# Altium footprint library INTAN_AFE_V003.PcbLib: 77 footprints (part 4 of 5)
Each footprint in its own frame and in the unit in brackets; x right, y up, seen from the top. Pads: shape width x height; smd on the part's side, far side on the other; paste and mask are expansions set on the pad; w line width, h text height; cw(c..) or ccw(c..) is an arc to the next point about the centre after c.
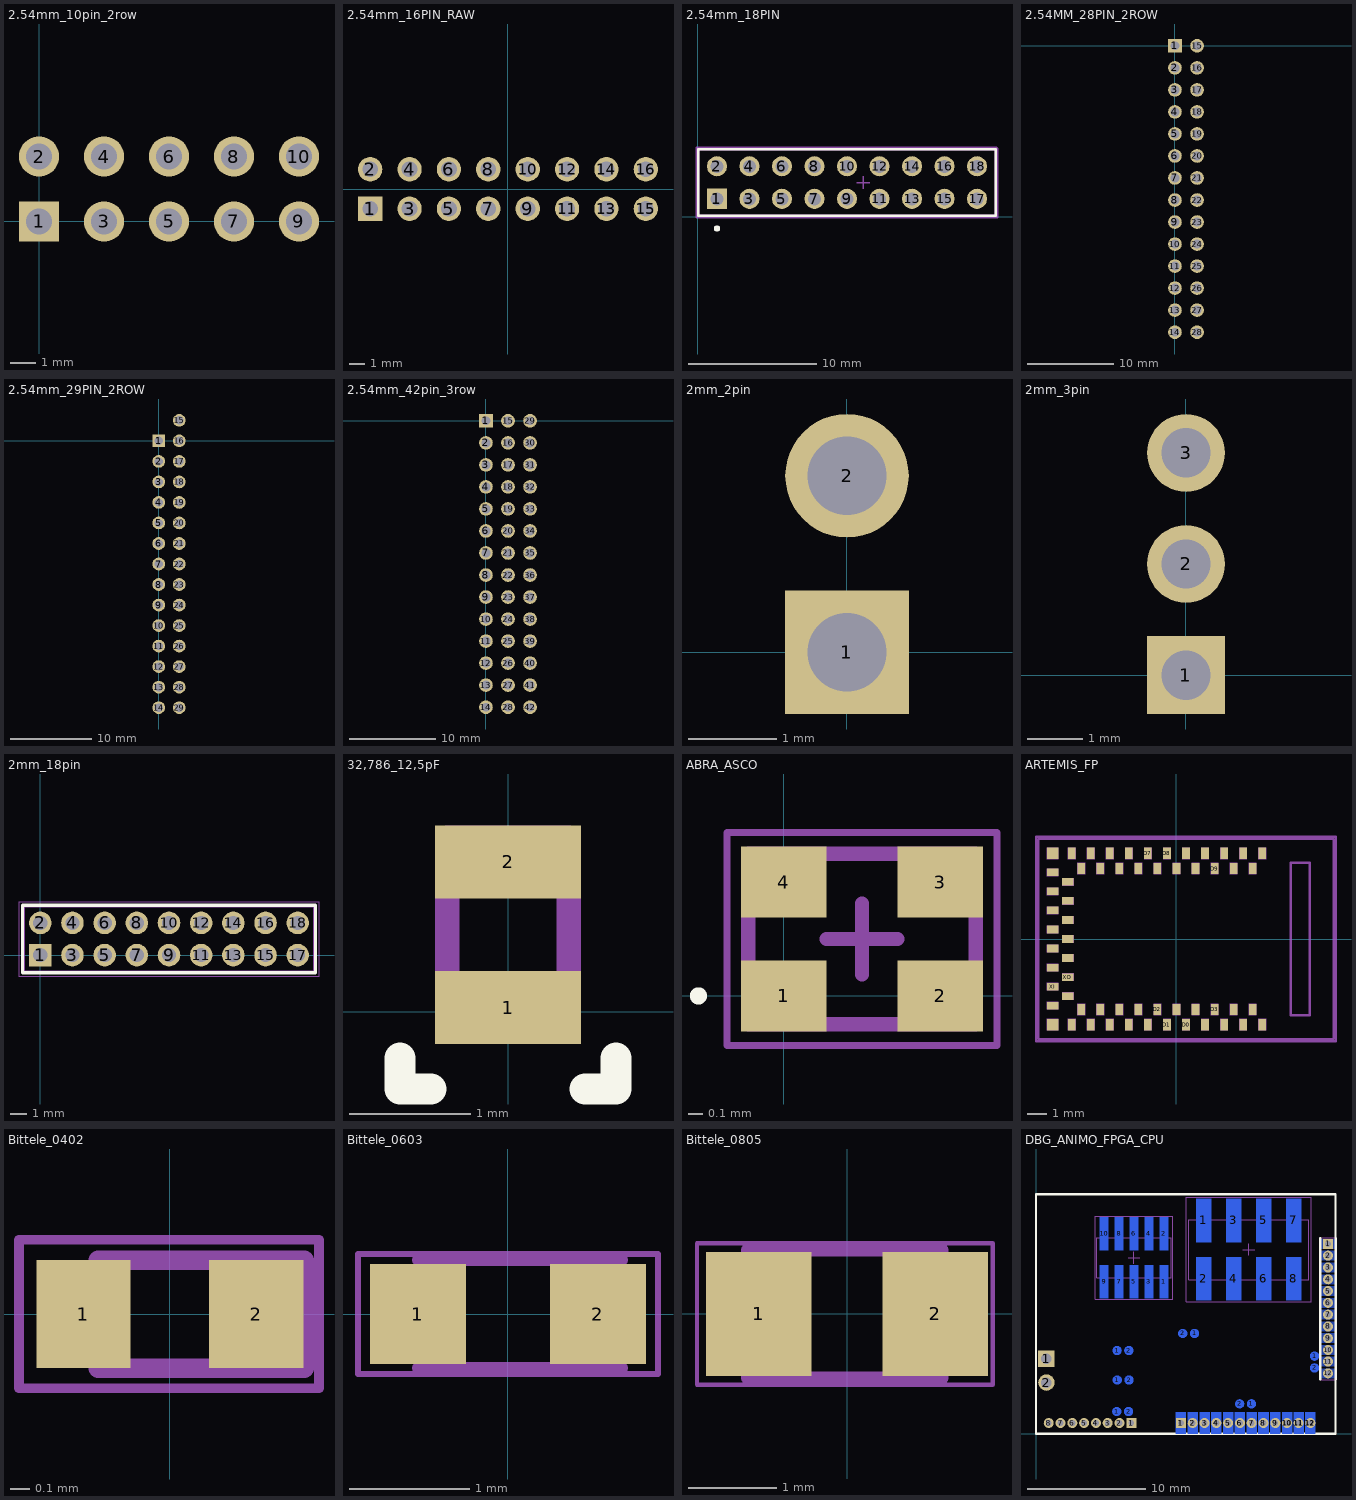
[diagram p3: the footprints below, top view; thin cyan lines are the x and y axes]

## 2.54mm_10pin_2row [mm]
pads (10):
  rect 1.57x1.57 hole 1.02 paste-1000 mask+0: 1(0,0)
  round 1.57 hole 1.02 paste-1000 mask+0: 2(0,2.54) 3(2.54,0) 4(2.54,2.54) 5(5.08,0) 6(5.08,2.54) 7(7.62,0) 8(7.62,2.54) 9(10.16,0) 10(10.16,2.54)

## 2.54mm_16PIN_RAW [mm]
pads (16):
  rect 1.57x1.57 hole 1.02 paste-1000 mask+0: 1(-8.89,-1.27)
  round 1.57 hole 1.02 paste-1000 mask+0: 2(-8.89,1.27) 3(-6.35,-1.27) 4(-6.35,1.27) 5(-3.81,-1.27) 6(-3.81,1.27) 7(-1.27,-1.27) 8(-1.27,1.27) 9(1.27,-1.27) 10(1.27,1.27) 11(3.81,-1.27) 12(3.81,1.27) 13(6.35,-1.27) 14(6.35,1.27) 15(8.89,-1.27) 16(8.89,1.27)

## 2.54mm_18PIN [mm]
pads (18):
  rect 1.57x1.57 hole 1.02 paste-1000 mask+0: 1(1.498,1.42)
  round 1.57 hole 1.02 paste-1000 mask+0: 2(1.498,3.96) 3(4.038,1.42) 4(4.038,3.96) 5(6.578,1.42) 6(6.578,3.96) 7(9.118,1.42) 8(9.118,3.96) 9(11.658,1.42) 10(11.658,3.96) 11(14.198,1.42) 12(14.198,3.96) 13(16.738,1.42) 14(16.738,3.96) 15(19.278,1.42) 16(19.278,3.96) 17(21.818,1.42) 18(21.818,3.96)
Top Overlay:
  circle w0.25: c1.5,-0.9 r0.125
  lines w0.2: 0.038,0.085 23.278,0.085 23.278,5.295 0.038,5.295 0.038,0.085
Top Assembly:
  lines w0.2: -0.062,-0.015 -0.062,5.395 23.305,5.395 23.378,5.322 23.378,-0.015
  text ".Designator" at 13.442,4.212 h1
Top 3D Body:
  lines w0.2: 23.278,5.295 23.278,0.085 0.038,0.085 0.038,5.295 23.3,5.295
Top Courtyard:
  lines w0.2: -0.062,5.395 -0.062,-0.015 23.378,-0.015
Top Component Center:
  lines w0.1: 12.428,2.69 13.428,2.69 ; 12.928,2.19 12.928,3.19

## 2.54MM_28PIN_2ROW [mm]
pads (28):
  rect 1.57x1.57 hole 1.02 paste-1000 mask+0: 1(0,0)
  round 1.57 hole 1.02 paste-1000 mask+0: 2(0,-2.54) 3(0,-5.08) 4(0,-7.62) 5(0,-10.16) 6(0,-12.7) 7(0,-15.24) 8(0,-17.78) 9(0,-20.32) 10(0,-22.86) 11(0,-25.4) 12(0,-27.94) 13(0,-30.48) 14(0,-33.02) 15(2.54,0) 16(2.54,-2.54) 17(2.54,-5.08) 18(2.54,-7.62) 19(2.54,-10.16) 20(2.54,-12.7) 21(2.54,-15.24) 22(2.54,-17.78) 23(2.54,-20.32) 24(2.54,-22.86) 25(2.54,-25.4) 26(2.54,-27.94) 27(2.54,-30.48) 28(2.54,-33.02)

## 2.54mm_29PIN_2ROW [mm]
pads (29):
  rect 1.57x1.57 hole 1.02 paste-1000 mask+0: 1(0,0)
  round 1.57 hole 1.02 paste-1000 mask+0: 2(0,-2.54) 3(0,-5.08) 4(0,-7.62) 5(0,-10.16) 6(0,-12.7) 7(0,-15.24) 8(0,-17.78) 9(0,-20.32) 10(0,-22.86) 11(0,-25.4) 12(0,-27.94) 13(0,-30.48) 14(0,-33.02) 15(2.54,2.54) 16(2.54,0) 17(2.54,-2.54) 18(2.54,-5.08) 19(2.54,-7.62) 20(2.54,-10.16) 21(2.54,-12.7) 22(2.54,-15.24) 23(2.54,-17.78) 24(2.54,-20.32) 25(2.54,-22.86) 26(2.54,-25.4) 27(2.54,-27.94) 28(2.54,-30.48) 29(2.54,-33.02)

## 2.54mm_42pin_3row [mm]
pads (42):
  rect 1.57x1.57 hole 1.02 paste-1000 mask+0: 1(0,0)
  round 1.57 hole 1.02 paste-1000 mask+0: 2(0,-2.54) 3(0,-5.08) 4(0,-7.62) 5(0,-10.16) 6(0,-12.7) 7(0,-15.24) 8(0,-17.78) 9(0,-20.32) 10(0,-22.86) 11(0,-25.4) 12(0,-27.94) 13(0,-30.48) 14(0,-33.02) 15(2.54,0) 16(2.54,-2.54) 17(2.54,-5.08) 18(2.54,-7.62) 19(2.54,-10.16) 20(2.54,-12.7) 21(2.54,-15.24) 22(2.54,-17.78) 23(2.54,-20.32) 24(2.54,-22.86) 25(2.54,-25.4) 26(2.54,-27.94) 27(2.54,-30.48) 28(2.54,-33.02) 29(5.08,0) 30(5.08,-2.54) 31(5.08,-5.08) 32(5.08,-7.62) 33(5.08,-10.16) 34(5.08,-12.7) 35(5.08,-15.24) 36(5.08,-17.78) 37(5.08,-20.32) 38(5.08,-22.86) 39(5.08,-25.4) 40(5.08,-27.94) 41(5.08,-30.48) 42(5.08,-33.02)

## 2mm_2pin [mm]
pads (2):
  rect 1.4x1.4 hole 0.89: 1(0,0)
  round 1.4 hole 0.89: 2(0,2)

## 2mm_3pin [mm]
pads (3):
  rect 1.4x1.4 hole 0.89: 1(0,0)
  round 1.4 hole 0.89: 2(0,2) 3(0,4)

## 2mm_18pin [mm]
pads (18):
  rect 1.4x1.4 hole 0.89: 1(0,0)
  round 1.4 hole 0.89: 2(0,2) 3(2,0) 4(2,2) 5(4,0) 6(4,2) 7(6,0) 8(6,2) 9(8,0) 10(8,2) 11(10,0) 12(10,2) 13(12,0) 14(12,2) 15(14,0) 16(14,2) 17(16,0) 18(16,2)
Top Overlay:
  lines w0.2: -1.1,1.1 -1.1,-1.1 ; -1.1,-1.1 -1.1,3.1 17.1,3.1 17.1,-1.1 -1.1,-1.1
Top 3D Body:
  lines w0.1: -1,1 -1,-1 ; -1,-1 -1,3 17,3 17,-1 -1,-1
Top Courtyard:
  lines w0.05: -1.325,0.675 -1.325,3.325 17.325,3.325 17.325,-1.325 -1.325,-1.325 -1.325,1.325
3D body "877581816.stp": height 4.75, standoff -3.35, extent -0.95,-1 16.95,3

## 32,786_12,5pF [mm]
pads (2):
  rect 1.2x0.6 smd: 1(0,0.035) 2(0,1.235)
Top Overlay:
  lines w0.254: -0.889,-0.381 -0.889,-0.635 -0.635,-0.635 ; 0.635,-0.635 0.889,-0.635 0.889,-0.381
Top 3D Body:
  lines w0.2: -0.5,-0.165 0.5,-0.165 0.5,1.435 -0.5,1.435 -0.5,-0.165
3D body "CM9V-T1A-32.768kHz-12.5pF-20PPM-TA-QC.stp": height 0.5, standoff 0, extent -0.5,-0.165 0.5,1.435

## ABRA_ASCO [mm]
pads (4):
  rect 0.6x0.5 smd: 1(0,0) 2(1.1,0) 3(1.1,0.8) 4(0,0.8)
Top Overlay:
  circle w0.1: c-0.6,0 r0.01
Top 3D Body:
  lines w0.1: -0.25,-0.2 1.35,-0.2 1.35,1 -0.25,1 -0.25,-0.2
Top Courtyard:
  lines w0.05: -0.4,-0.35 1.5,-0.35 1.5,1.15 -0.4,1.15 -0.4,-0.35
  lines w0.1: 0.3,0.4 0.8,0.4 ; 0.55,0.15 0.55,0.65
3D body "ACSO.STEP": height 0.6, standoff -0.05, extent -0.25,-0.196 1.35,1.004

## ARTEMIS_FP [mm]
pads (59):
  rect 0.4x0.6 smd: AD16(-4,-3.7) BOOT(1.5,4.5) D0(0.5,-4.5) D1(-0.5,-4.5) D2(-1,-3.7) D3(2,-3.7) D7(-1.5,4.5) D8(-0.5,4.5) D9(2,3.7) D10(1,3.7) D14(-5,3.7) D17(-3.5,-4.5) D36(2.5,-4.5) D38(3,-3.7) D40(2.5,4.5) D41(-2.5,-4.5) GND@1(4.5,4.5) GND@39(-5.5,-4.5) GND@47(-1.5,-4.5) GND@59(4.5,-4.5) RXI-0(3.5,4.5) SWDCK(4,3.7) SWDIO(0,3.7) TXO-0(0.5,4.5) ~AD31(-3,-3.7) ~AD35(-2,3.7) ~D4(-2.5,4.5) ~D5(-1,3.7) ~D18(-4.5,-4.5) ~D19(-5,-3.7) ~D22(-3.5,4.5) ~D23(-4,3.7) ~D24(-3,3.7) ~D27(-4.5,4.5) ~D28(-5.5,4.5) ~D37(3.5,-4.5) ~D39(3,3.7) ~D42(1.5,-4.5) ~D43(1,-3.7) ~D44(4,-3.7) ~D45(-2,-3.7) ~RST(0,-3.7)
  rect 0.6x0.4 smd: AD34(-6.5,-0.5) D15(-6.5,0.5) VDD@36(-5.7,-3) VDD@37(-6.5,-3.5) XI(-6.5,-2.5) XO(-5.7,-2) ~AD11(-5.7,-1) ~AD12(-5.7,2) ~AD13(-5.7,1) ~AD29(-6.5,-1.5) ~AD32(-5.7,3) ~AD33/SWO(-5.7,0) ~D6(-6.5,3.5) ~D25(-6.5,2.5) ~D26(-6.5,1.5)
  rect 0.6x0.6 smd: GND@22(-6.5,4.5) GND@38(-6.5,-4.5)
Top Assembly:
  drawing of 67 lines, arcs and shapes, not listed
Mechanical 7:
  lines w0.127: -7.375,-5.375 -7.375,5.375 8.375,5.375 8.375,-5.375 -7.375,-5.375
Mechanical 20:
  text "38" at -6.5,-4.5 h0.17
  text "51" at 0.5,-4.5 h0.17
  text "47" at -1.5,-4.5 h0.17
  text "43" at -3.5,-4.5 h0.17
  text "40" at -5,-3.7 h0.17
  text "42" at -4,-3.7 h0.17
  text "44" at -3,-3.7 h0.17
  text "46" at -2,-3.7 h0.17
  text "48" at -1,-3.7 h0.17
  text "50" at 0,-3.7 h0.17
  text "52" at 1,-3.7 h0.17
  text "54" at 2,-3.7 h0.17
  text "21" at -5.5,4.5 h0.17
  text "18" at -4,3.7 h0.17
  text "4" at 3,3.7 h0.17
  text "59" at 4.5,-4.5 h0.17
  text "58" at 4,-3.7 h0.17
  text "57" at 3.5,-4.5 h0.17
  text "56" at 3,-3.7 h0.17
  text "55" at 2.5,-4.5 h0.17
  text "53" at 1.5,-4.5 h0.17
  text "49" at -0.5,-4.5 h0.17
  text "45" at -2.5,-4.5 h0.17
  text "41" at -4.5,-4.5 h0.17
  text "39" at -5.5,-4.5 h0.17
  text "37" at -6.5,-3.5 h0.17
  text "36" at -5.7,-3 h0.17
  text "35" at -6.5,-2.5 h0.17
  text "34" at -5.7,-2 h0.17
  text "33" at -6.5,-1.5 h0.17
  text "32" at -5.7,-1 h0.17
  text "31" at -6.5,-0.5 h0.17
  text "30" at -5.7,0 h0.17
  text "29" at -6.5,0.5 h0.17
  text "28" at -5.7,1 h0.17
  text "27" at -6.5,1.5 h0.17
  text "26" at -5.7,2 h0.17
  text "25" at -6.5,2.5 h0.17
  text "24" at -5.7,3 h0.17
  text "23" at -6.5,3.5 h0.17
  text "20" at -5,3.7 h0.17
  text "19" at -4.5,4.5 h0.17
  text "22" at -6.5,4.5 h0.17
  text "17" at -3.5,4.5 h0.17
  text "16" at -3,3.7 h0.17
  text "15" at -2.5,4.5 h0.17
  text "14" at -2,3.7 h0.17
  text "13" at -1.5,4.5 h0.17
  text "12" at -1,3.7 h0.17
  text "11" at -0.5,4.5 h0.17
  text "10" at 0,3.7 h0.17
  text "9" at 0.5,4.5 h0.17
  text "8" at 1,3.7 h0.17
  text "7" at 1.5,4.5 h0.17
  text "6" at 2,3.7 h0.17
  text "5" at 2.5,4.5 h0.17
  text "2" at 4,3.7 h0.17
  text "3" at 3.5,4.5 h0.17
  text "1" at 4.5,4.5 h0.17
3D body "Artemis Module.step": height 2.31, standoff 0, extent -7,-5 8,5

## Bittele_0402 [mm]
pads (2):
  rect 0.48x0.55 smd: 1(-0.44,0) 2(0.44,0)
Top 3D Body:
  lines w0.1: -0.365,-0.275 0.685,-0.275 0.685,0.275 -0.365,0.275
Top Courtyard:
  lines w0.05: -0.768,-0.377 -0.768,0.379 0.76,0.379 0.76,-0.377 -0.768,-0.377
3D body: height 0.55, standoff 0, extent -0.425,-0.275 0.425,0.275

## Bittele_0603 [mm]
pads (2):
  rect 0.8x0.83 smd: 1(-0.75,0) 2(0.75,0)
Top 3D Body:
  lines w0.1: -0.75,-0.45 0.95,-0.45 ; -0.75,0.45 0.95,0.45
Top Courtyard:
  lines w0.05: -1.25,-0.5 -1.25,0.5 1.25,0.5 1.25,-0.5 -1.25,-0.5
3D body: height 1, standoff 0, extent -0.65,-0.45 0.65,0.45

## Bittele_0805 [mm]
pads (2):
  rect 1.2x1.4 smd: 1(-1,0) 2(1,0)
Top 3D Body:
  lines w0.15: -1.125,-0.725 1.075,-0.725 1.075,0.725 -1.125,0.725 -1.125,-0.725
  text ".Designator" at -1.025,0 h0.2
Top Courtyard:
  lines w0.05: -1.7,-0.8 1.65,-0.8 1.65,0.8 -1.7,0.8 -1.7,-0.8
3D body: height 0.8, standoff 0, extent -1.1,-0.725 1.1,0.725

## DBG_ANIMO_FPGA_CPU [mm]
pads (76):
  rect 1.4x1.4 hole 0.89: 1(0.889,6.35)
  round 0.75 smd far side mask+0.102: 1(6.85,1.891) 1(6.876,7.059) 1(6.889,4.562) 1(13.446,8.509) 1(18.272,2.54) 1(23.622,6.588) 2(7.85,1.891) 2(7.876,7.059) 2(7.889,4.562) 2(12.446,8.509) 2(17.272,2.54) 2(23.622,5.588)
  rect 0.85x0.85 hole 0.5: 1(8.08,0.91) 1(12.291,0.91) 1(24.765,16.105)
  rect 0.74x2.79 smd far side: 1(10.85,12.896) 2(10.85,16.966) 3(9.58,12.896) 4(9.58,16.966) 5(8.31,12.896) 6(8.31,16.966) 7(7.04,12.896) 8(7.04,16.966) 9(5.77,12.896) 10(5.77,16.966)
  rect 0.85x1.8 smd far side: 1(12.291,0.91) 2(13.291,0.91) 3(14.291,0.91) 4(15.291,0.91) 5(16.291,0.91) 6(17.291,0.91) 7(18.291,0.91) 8(19.291,0.91) 9(20.291,0.91) 10(21.291,0.91) 11(22.268,0.91) 12(23.268,0.91)
  rect 1.27x3.68 smd far side: 1(14.224,18.096) 2(14.224,13.146) 3(16.764,18.096) 4(16.764,13.146) 5(19.304,18.096) 6(19.304,13.146) 7(21.844,18.096) 8(21.844,13.146)
  round 1.4 hole 0.89: 2(0.889,4.35)
  round 0.85 hole 0.5: 2(7.08,0.91) 2(13.291,0.91) 2(24.765,15.105) 3(6.08,0.91) 3(14.291,0.91) 3(24.765,14.105) 4(5.08,0.91) 4(15.291,0.91) 4(24.765,13.105) 5(4.08,0.91) 5(16.291,0.91) 5(24.765,12.105) 6(3.08,0.91) 6(17.291,0.91) 6(24.765,11.105) 7(2.08,0.91) 7(18.291,0.91) 7(24.765,10.105) 8(1.08,0.91) 8(19.291,0.91) 8(24.765,9.105) 9(20.291,0.91) 9(24.765,8.105) 10(21.291,0.91) 10(24.765,7.105) 11(22.268,0.91) 11(24.765,6.128) 12(23.268,0.91) 12(24.765,5.128)
Bottom Layer:
  rectangle: 24.13,4.703 25.4,5.553
  rectangle: 24.13,15.68 25.4,16.53
  rectangle: 24.13,14.68 25.4,15.53
  rectangle: 24.13,13.68 25.4,14.53
  rectangle: 24.171,11.68 25.4,12.53
  rectangle: 24.171,10.68 25.4,11.53
  rectangle: 24.171,9.68 25.4,10.53
  rectangle: 24.171,8.68 25.4,9.53
  rectangle: 24.171,7.68 25.4,8.53
  rectangle: 24.171,6.68 25.4,7.53
  rectangle: 24.171,5.703 25.4,6.553
  rectangle: 24.171,12.68 25.4,13.53
Top Overlay:
  lines w0.198: 0,0 0,20.32 25.4,20.32 25.4,0 0,0
  lines w0.2: 24.09,4.605 24.09,16.605 ; 25.44,4.605 25.44,16.605
Bottom Overlay:
  circle w0.25: c12.319,18.161 r0.125
  circle w0.25: c10.85,10.951 r0.125
  lines w0.2: 5.135,14.59 5.135,15.272 ; 11.485,14.59 11.485,15.272 ; 13.189,13.081 12.954,13.081 12.954,18.161 13.189,18.161 ; 22.879,13.081 23.114,13.081 23.114,18.161 22.879,18.161
Bottom Solder:
  lines w0.198: 0,0 25.4,0
Top 3D Body:
  lines w0.1: 5.135,13.216 11.485,13.216 11.485,16.646 5.135,16.646 5.135,13.216 ; 12.954,13.081 23.114,13.081 23.114,18.161 12.954,18.161 12.954,13.081 ; 24.13,4.605 25.4,4.605 25.4,16.605 24.13,16.605 24.13,4.605
Top Courtyard:
  lines w0.05: 5.035,11.401 11.585,11.401 11.585,18.461 5.035,18.461 5.035,11.401 ; 12.729,11.181 12.729,20.061 23.339,20.061 23.339,11.181 12.729,11.181
  lines w0.1: 7.81,14.931 8.81,14.931 ; 8.31,14.431 8.31,15.431 ; 17.534,15.621 18.534,15.621 ; 18.034,15.121 18.034,16.121
3D body "TSM-104-01-X-DV.step": height 9.65, standoff 0, extent 12.954,11.938 23.114,19.304
3D body "FTSH-105-01-L-DV.stp": height 5.96, standoff -0.01, extent 5.135,12.01 11.485,17.852